# EAGLE library part ADG1419BRMZ-REEL7 (library Oscilloscope Component Library)
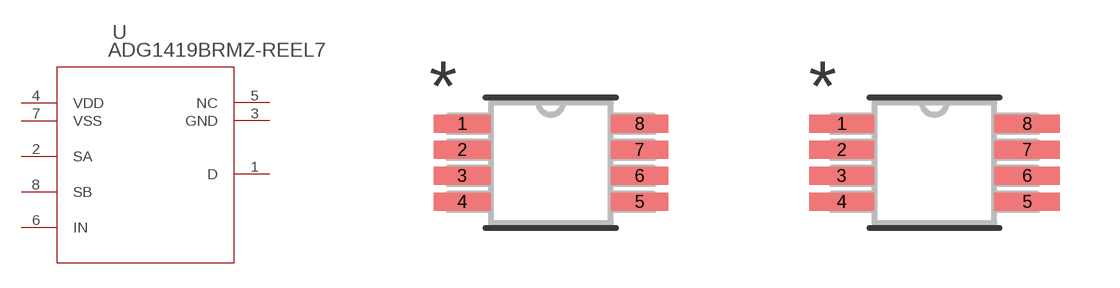
[diagram p1: symbol with the pads of RM_8_ADI; footprints RM_8_ADI, ADG1419-M]

Designator prefix U

## ADG1419BRMZ-REEL7RM_8_ADI (COPYRIGHT: Copyright (C) 2023 Ultra Librarian. All rights reserved.; MANUFACTURER_PART_NUMBER: ADG1419BRMZ-REEL7; MFR_NAME: Analog Devices Inc)  [RM_8_ADI]
1  D  pas
2  SA  pas
3  GND  pas
4  VDD  pas
5  NC  pas
6  IN  pas
7  VSS  pas
8  SB  pas

## ADG1419BRMZ-REEL7RM_8_ADI-M (COPYRIGHT: Copyright (C) 2023 Ultra Librarian. All rights reserved.; MANUFACTURER_PART_NUMBER: ADG1419BRMZ-REEL7; MFR_NAME: Analog Devices Inc)  [ADG1419-M]
Pads as for RM_8_ADI

## ADG1419BRMZ-REEL7RM_8_ADI-L (COPYRIGHT: Copyright (C) 2023 Ultra Librarian. All rights reserved.; MANUFACTURER_PART_NUMBER: ADG1419BRMZ-REEL7; MFR_NAME: Analog Devices Inc)  [ADG1419-L]
Pads as for RM_8_ADI

## Footprint RM_8_ADI (pad centres in mm)
smd 1.431 x 0.451: 1 -2.215,0.975; 2 -2.215,0.325; 3 -2.215,-0.325; 4 -2.215,-0.975; 5 2.215,-0.975; 6 2.215,-0.325; 7 2.215,0.325; 8 2.215,0.975

## Footprint ADG1419-M (pad centres in mm)
smd 1.634 x 0.451: 1 -2.317,0.975; 2 -2.317,0.325; 3 -2.317,-0.325; 4 -2.317,-0.975; 5 2.317,-0.975; 6 2.317,-0.325; 7 2.317,0.325; 8 2.317,0.975

## Footprint ADG1419-L (pad centres in mm)
smd 1.206 x 0.4: 1 -2.124,0.975; 2 -2.124,0.325; 3 -2.124,-0.325; 4 -2.124,-0.975; 5 2.124,-0.975; 6 2.124,-0.325; 7 2.124,0.325; 8 2.124,0.975